# Altium schematic symbol library STM32L011E4Y6TR.SchLib: 1 symbol
Pins are listed as number, name and electrical type; pins without a type are passive.

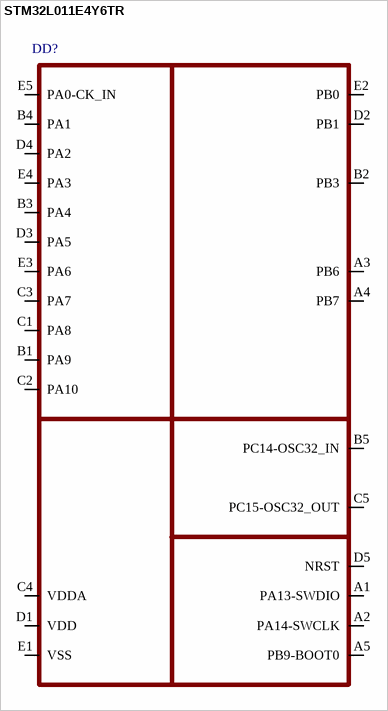
[diagram p0: symbol STM32L011E4Y6TR]

## STM32L011E4Y6TR
designator DD?
pins: A1 PA13-SWDIO, A2 PA14-SWCLK, A3 PB6, A4 PB7, A5 PB9-BOOT0, B1 PA9, B2 PB3, B3 PA4, B4 PA1, B5 PC14-OSC32_IN, C1 PA8, C2 PA10, C3 PA7, C4 VDDA, C5 PC15-OSC32_OUT, D1 VDD, D2 PB1, D3 PA5, D4 PA2, D5 NRST, E1 VSS, E2 PB0, E3 PA6, E4 PA3, E5 PA0-CK_IN